# Altium integrated library pedals-submini tubes.IntLib: 4 symbols
Pins are listed as number, name and electrical type; pins without a type are passive.

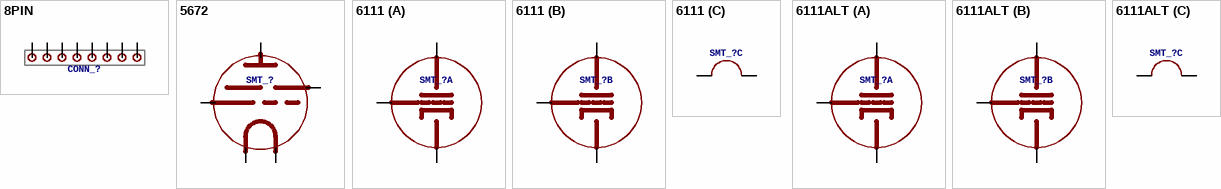
[diagram p0: symbols 8PIN to 6111ALT]

## 8PIN
designator CONN_?
footprint 8PIN
pins: P$1, P$2, P$3, P$4, P$5, P$6, P$7, P$8

## 5672
designator SMT_?
footprint 5672
pins: P$1 1, P$2 2, P$3 3, P$4 4, P$5 5

## 6111
designator SMT_?
footprint 6111
part A pins: G1 GRID, K1 CATHODE, P1 PLATE
part B pins: G2 GRID, K2 CATHODE, P2 PLATE
part C pins: H1 3, H2 6

## 6111ALT
designator SMT_?
footprint TUBE2
part A pins: G1 GRID, K1 CATHODE, P1 PLATE
part B pins: G2 GRID, K2 CATHODE, P2 PLATE
part C pins: H1 3, H2 6